# Altium schematic symbol library MyLibs_Audio.SchLib: 4 symbols
Pins are listed as number, name and electrical type; pins without a type are passive.

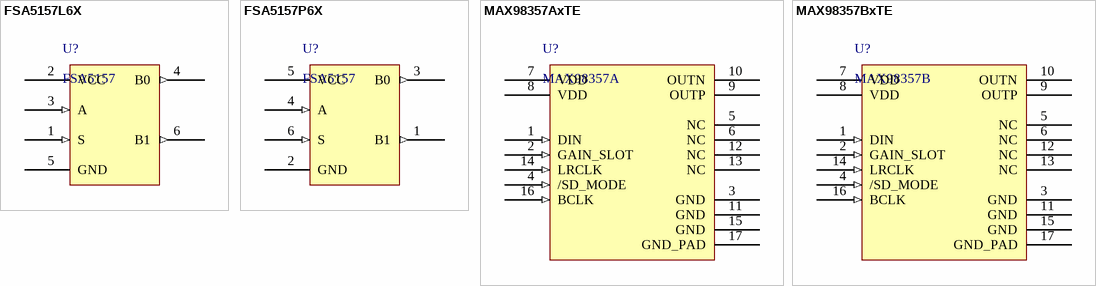
[diagram p0: symbols FSA5157L6X to MAX98357BxTE]

## FSA5157L6X
designator U?, comment FSA5157
0.4Ω Low Voltage SPDT Analog Switch. Package: 6-Lead MicroPak
pins: 1 S (in), 2 VCC (power), 3 A (in), 4 B0 (out), 5 GND (power), 6 B1 (out)

## FSA5157P6X
designator U?, comment FSA5157
0.4Ω Low Voltage SPDT Analog Switch. Package: 6-Lead SC-70
pins: 1 B1 (out), 2 GND (power), 3 B0 (out), 4 A (in), 5 VCC (power), 6 S (in)

## MAX98357AxTE
designator U?, comment MAX98357A
Tiny, Low-Cost, PCM Class D Amplifier with Class AB Performance. Package: 16-TQFN
pins: 1 DIN (in), 2 GAIN_SLOT (in), 3 GND, 4 /SD_MODE (in), 5 NC, 6 NC, 7 VDD (power), 8 VDD (power), 9 OUTP, 10 OUTN, 11 GND, 12 NC, 13 NC, 14 LRCLK (in), 15 GND, 16 BCLK (in), 17 GND_PAD

## MAX98357BxTE
designator U?, comment MAX98357B
Tiny, Low-Cost, PCM Class D Amplifier with / Class AB Performance. Package: 16-TQFN
pins: 1 DIN (in), 2 GAIN_SLOT (in), 3 GND, 4 /SD_MODE (in), 5 NC, 6 NC, 7 VDD (power), 8 VDD (power), 9 OUTP, 10 OUTN, 11 GND, 12 NC, 13 NC, 14 LRCLK (in), 15 GND, 16 BCLK (in), 17 GND_PAD